# Altium footprint library DF173P0-20DS-0P5V57.PcbLib: 1 footprints
Each footprint in its own frame and in the unit in brackets; x right, y up, seen from the top. Pads: shape width x height; smd on the part's side, far side on the other; paste and mask are expansions set on the pad; w line width, h text height; cw(c..) or ccw(c..) is an arc to the next point about the centre after c.
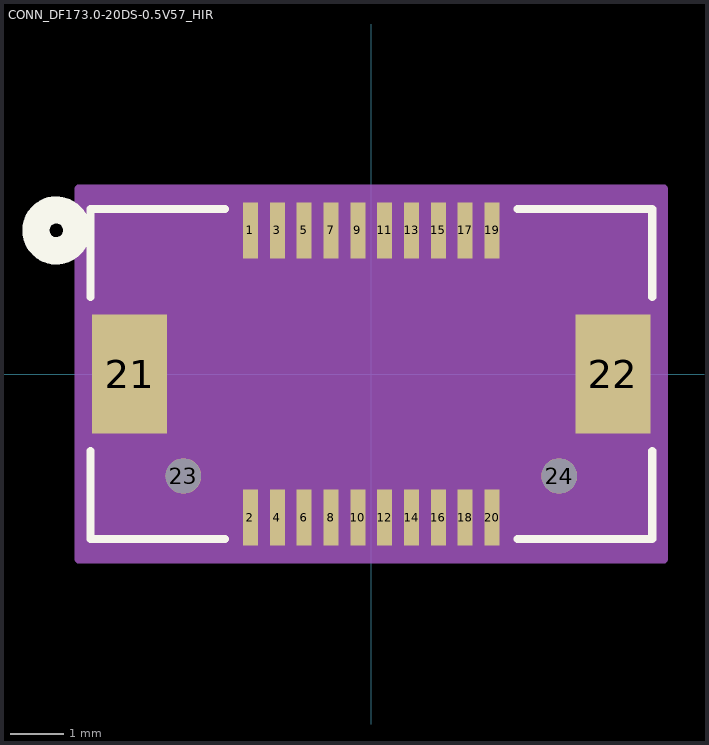
[diagram p0: the footprint, top view; thin cyan lines are the x and y axes]

## CONN_DF173.0-20DS-0.5V57_HIR [mil]
pads (24):
  rect 11x41 smd paste+0 mask+0: 1(-88.58,105.31) 2(-88.58,-105.31) 3(-68.9,105.31) 4(-68.9,-105.31) 5(-49.21,105.31) 6(-49.21,-105.31) 7(-29.53,105.31) 8(-29.53,-105.31) 9(-9.84,105.31) 10(-9.84,-105.31) 11(9.84,105.31) 12(9.84,-105.31) 13(29.53,105.31) 14(29.53,-105.31) 15(49.21,105.31) 16(49.21,-105.31) 17(68.9,105.31) 18(68.9,-105.31) 19(88.58,105.31) 20(88.58,-105.31)
  rect 55x87 smd paste-43.5 mask-43.5: 21(-177.17,0) 22(177.17,0)
  round 26 / inner round 60 / far side round 26 hole 26 unplated paste-99999 mask+0: 23(-137.8,-74.8) 24(137.8,-74.8)
Top Overlay:
  circle w20: c-231,105.31 r15
  lines w6: -206,-56.53 -206,-121 -107.18,-121 ; -206,56.53 -206,121 -107.18,121 ; 107.18,-121 206,-121 206,-56.53 ; 107.18,121 206,121 206,56.53
Bottom Overlay:
  circle w20: c-231,105.31 r15
Mechanical 13:
  lines w1: -201,-116 201,-116 201,116 -201,116 -201,-116
  text "RefDes2" at -145,-25 h50
Mechanical 15:
  region: 214.67,135.81 -214.67,135.81 -214.67,-135.81 214.67,-135.81
  lines w6: -214.67,-135.81 -214.67,135.81 214.67,135.81 214.67,-135.81 -214.67,-135.81